# EAGLE library part SEN55 (library airqualityparts)
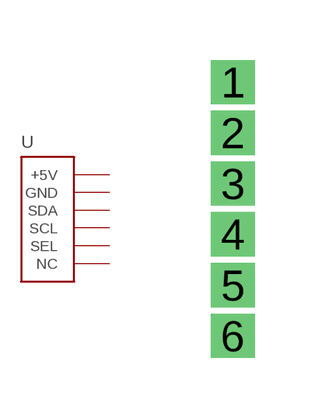
[diagram p3: symbol with the pads of SEN55; footprint SEN55]

Designator prefix -

## SEN55  [SEN55]
1  +5V
2  GND
3  SDA
4  SCL
5  SEL
6  NC

## Footprint SEN55 (pad centres in mm)
drill 0.6 square: 1 0,7.62; 2 0,6.35; 3 0,5.08; 4 0,3.81; 5 0,2.54; 6 0,1.27